# EAGLE library part STM32-M-64-TFBGA (library pel_stm32)
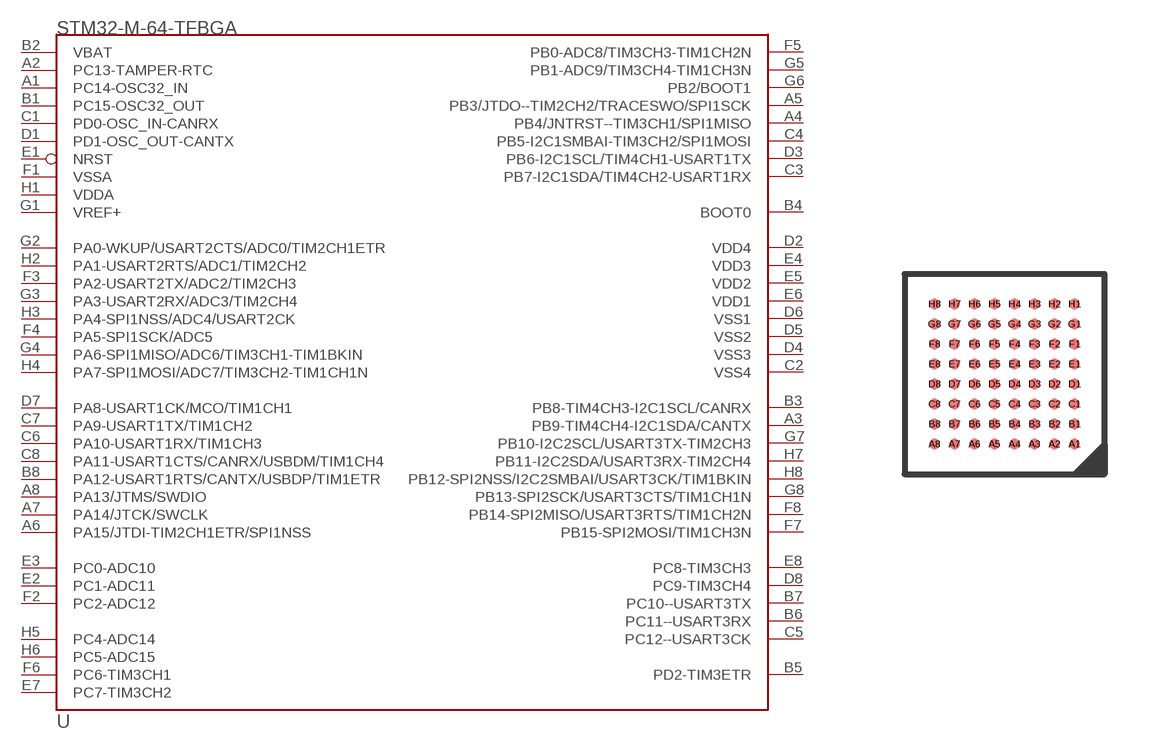
[diagram p3: symbol with the pads of TFBGA64; footprint TFBGA64]

Designator prefix U

## STM32-M-64-TFBGA  [TFBGA64]
A1  PC14-OSC32_IN
A2  PC13-TAMPER-RTC
A3  PB9-TIM4CH4-I2C1SDA/CANTX
A4  PB4/JNTRST--TIM3CH1/SPI1MISO
A5  PB3/JTDO--TIM2CH2/TRACESWO/SPI1SCK
A6  PA15/JTDI-TIM2CH1ETR/SPI1NSS
A7  PA14/JTCK/SWCLK
A8  PA13/JTMS/SWDIO
B1  PC15-OSC32_OUT
B2  VBAT  sup
B3  PB8-TIM4CH3-I2C1SCL/CANRX
B4  BOOT0  in
B5  PD2-TIM3ETR
B6  PC11--USART3RX
B7  PC10--USART3TX
B8  PA12-USART1RTS/CANTX/USBDP/TIM1ETR
C1  PD0-OSC_IN-CANRX  in
C2  VSS4
C3  PB7-I2C1SDA/TIM4CH2-USART1RX
C4  PB5-I2C1SMBAI-TIM3CH2/SPI1MOSI
C5  PC12--USART3CK
C6  PA10-USART1RX/TIM1CH3
C7  PA9-USART1TX/TIM1CH2
C8  PA11-USART1CTS/CANRX/USBDM/TIM1CH4
D1  PD1-OSC_OUT-CANTX  out
D2  VDD4
D3  PB6-I2C1SCL/TIM4CH1-USART1TX
D4  VSS3  sup
D5  VSS2  sup
D6  VSS1  sup
D7  PA8-USART1CK/MCO/TIM1CH1
D8  PC9-TIM3CH4
E1  NRST
E2  PC1-ADC11
E3  PC0-ADC10
E4  VDD3  sup
E5  VDD2  sup
E6  VDD1  sup
E7  PC7-TIM3CH2
E8  PC8-TIM3CH3
F1  VSSA  sup
F2  PC2-ADC12
F3  PA2-USART2TX/ADC2/TIM2CH3
F4  PA5-SPI1SCK/ADC5
F5  PB0-ADC8/TIM3CH3-TIM1CH2N
F6  PC6-TIM3CH1
F7  PB15-SPI2MOSI/TIM1CH3N
F8  PB14-SPI2MISO/USART3RTS/TIM1CH2N
G1  VREF+
G2  PA0-WKUP/USART2CTS/ADC0/TIM2CH1ETR
G3  PA3-USART2RX/ADC3/TIM2CH4
G4  PA6-SPI1MISO/ADC6/TIM3CH1-TIM1BKIN
G5  PB1-ADC9/TIM3CH4-TIM1CH3N
G6  PB2/BOOT1
G7  PB10-I2C2SCL/USART3TX-TIM2CH3
G8  PB13-SPI2SCK/USART3CTS/TIM1CH1N
H1  VDDA  sup
H2  PA1-USART2RTS/ADC1/TIM2CH2
H3  PA4-SPI1NSS/ADC4/USART2CK
H4  PA7-SPI1MOSI/ADC7/TIM3CH2-TIM1CH1N
H5  PC4-ADC14
H6  PC5-ADC15
H7  PB11-I2C2SDA/USART3RX-TIM2CH4
H8  PB12-SPI2NSS/I2C2SMBAI/USART3CK/TIM1BKIN

## Footprint TFBGA64 (pad centres in mm)
smd 0.27 x 0.27: A1 1.75,-1.75; A2 1.25,-1.75; A3 0.75,-1.75; A4 0.25,-1.75; A5 -0.25,-1.75; A6 -0.75,-1.75; A7 -1.25,-1.75; A8 -1.75,-1.75; B1 1.75,-1.25; B2 1.25,-1.25; B3 0.75,-1.25; B4 0.25,-1.25; B5 -0.25,-1.25; B6 -0.75,-1.25; B7 -1.25,-1.25; B8 -1.75,-1.25; C1 1.75,-0.75; C2 1.25,-0.75; C3 0.75,-0.75; C4 0.25,-0.75; C5 -0.25,-0.75; C6 -0.75,-0.75; C7 -1.25,-0.75; C8 -1.75,-0.75; D1 1.75,-0.25; D2 1.25,-0.25; D3 0.75,-0.25; D4 0.25,-0.25; D5 -0.25,-0.25; D6 -0.75,-0.25; D7 -1.25,-0.25; D8 -1.75,-0.25; E1 1.75,0.25; E2 1.25,0.25; E3 0.75,0.25; E4 0.25,0.25; E5 -0.25,0.25; E6 -0.75,0.25; E7 -1.25,0.25; E8 -1.75,0.25; F1 1.75,0.75; F2 1.25,0.75; F3 0.75,0.75; F4 0.25,0.75; F5 -0.25,0.75; F6 -0.75,0.75; F7 -1.25,0.75; F8 -1.75,0.75; G1 1.75,1.25; G2 1.25,1.25; G3 0.75,1.25; G4 0.25,1.25; G5 -0.25,1.25; G6 -0.75,1.25; G7 -1.25,1.25; G8 -1.75,1.25; H1 1.75,1.75; H2 1.25,1.75; H3 0.75,1.75; H4 0.25,1.75; H5 -0.25,1.75; H6 -0.75,1.75; H7 -1.25,1.75; H8 -1.75,1.75